# EAGLE library part EB-230-A (library X893)
TransSystem EB-230
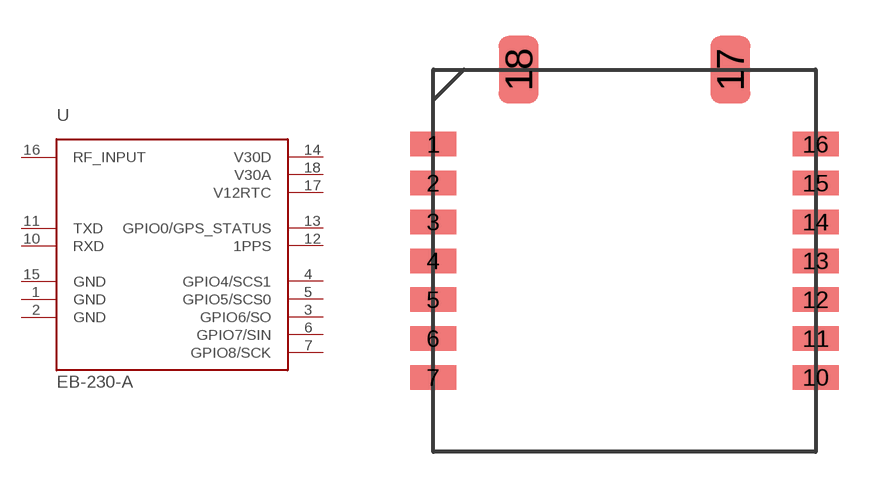
[diagram p14: symbol with the pads of EB-230-A; footprint EB-230-A]

Designator prefix -

## EB-230-A  [EB-230-A]
1  GND  sup
2  GND  sup
3  GPIO6/SO
4  GPIO4/SCS1
5  GPIO5/SCS0
6  GPIO7/SIN
7  GPIO8/SCK
10  RXD  in
11  TXD  out
12  1PPS  out
13  GPIO0/GPS_STATUS  out
14  V30D  pas
15  GND  sup
16  RF_INPUT  pas
17  V12RTC  pas
18  V30A  pas

## Footprint EB-230-A (pad centres in mm)
smd 1.5 x 0.8: 1 -6.25,3.81; 2 -6.25,2.54; 3 -6.25,1.27; 4 -6.25,0; 5 -6.25,-1.27; 6 -6.25,-2.54; 7 -6.25,-3.81; 10 6.25,-3.81; 11 6.25,-2.54; 12 6.25,-1.27; 13 6.25,0; 14 6.25,1.27; 15 6.25,2.54; 16 6.25,3.81
smd 1.3 x 2.2: 17 3.46,6.25; 18 -3.46,6.25